# Altium footprint library esp32.PcbLib: 1 footprints
Each footprint in its own frame and in the unit in brackets; x right, y up, seen from the top. Pads: shape width x height; smd on the part's side, far side on the other; paste and mask are expansions set on the pad; w line width, h text height; cw(c..) or ccw(c..) is an arc to the next point about the centre after c.
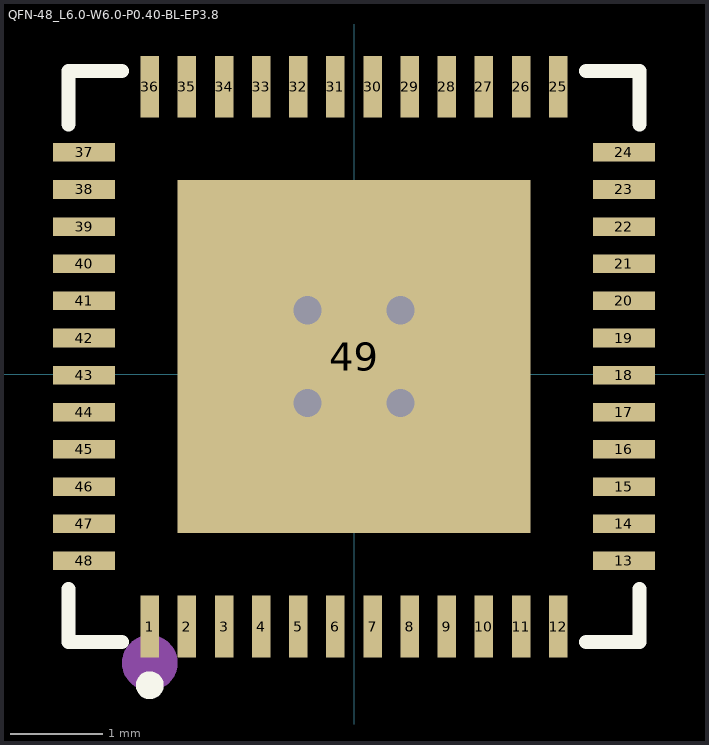
[diagram p0: the footprint, top view; thin cyan lines are the x and y axes]

## QFN-48_L6.0-W6.0-P0.40-BL-EP3.8 [mm]
pads (49):
  rect 0.2x0.665 smd: 1(-2.2,-2.72) 2(-1.8,-2.72) 3(-1.4,-2.72) 4(-1,-2.72) 5(-0.6,-2.72) 6(-0.2,-2.72) 7(0.2,-2.72) 8(0.6,-2.72) 9(1,-2.72) 10(1.4,-2.72) 11(1.8,-2.72) 12(2.2,-2.72) 25(2.2,3.095) 26(1.8,3.095) 27(1.4,3.095) 28(1,3.095) 29(0.6,3.095) 30(0.2,3.095) 31(-0.2,3.095) 32(-0.6,3.095) 33(-1,3.095) 34(-1.4,3.095) 35(-1.8,3.095) 36(-2.2,3.095)
  rect 0.665x0.2 smd: 13(2.908,-2.013) 14(2.908,-1.613) 15(2.908,-1.213) 16(2.908,-0.813) 17(2.908,-0.413) 18(2.908,-0.013) 19(2.908,0.387) 20(2.908,0.787) 21(2.908,1.187) 22(2.908,1.587) 23(2.908,1.987) 24(2.908,2.387) 37(-2.908,2.387) 38(-2.908,1.987) 39(-2.908,1.587) 40(-2.908,1.187) 41(-2.908,0.787) 42(-2.908,0.387) 43(-2.908,-0.013) 44(-2.908,-0.413) 45(-2.908,-0.813) 46(-2.908,-1.213) 47(-2.908,-1.613) 48(-2.908,-2.013)
  rect 3.8x3.8 smd: 49(0,0.187)
via 0.5,-0.313 diameter 0.61 hole 0.305
via -0.5,-0.313 diameter 0.61 hole 0.305
via 0.5,0.687 diameter 0.61 hole 0.305
via -0.5,0.687 diameter 0.61 hole 0.305
Top Overlay:
  circle w0.15: c-2.2,-3.353 r0.075
  lines w0.152: -3.076,-2.315 -3.076,-2.889 -2.503,-2.889 ; -3.076,2.69 -3.076,3.264 -2.503,3.264 ; 2.503,-2.889 3.076,-2.889 3.076,-2.315 ; 2.503,3.264 3.076,3.264 3.076,2.69
Mechanical 15:
  circle w0.3: c-2.2,-3.113 r0.15